# EAGLE library part MPU9255 (library HikeBuddy)
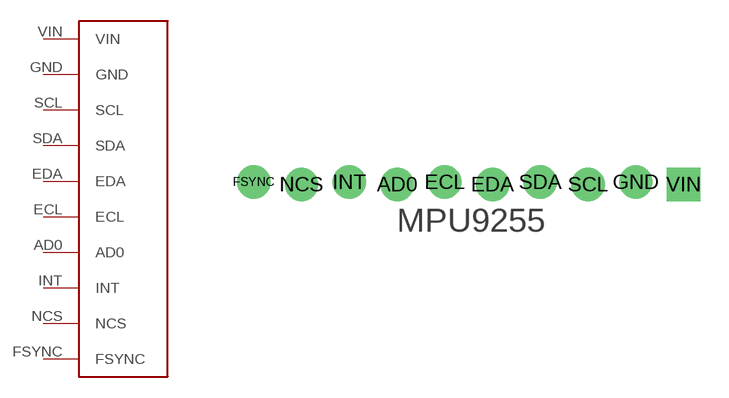
[diagram p1: symbol with the pads of MPU9255; footprint MPU9255]

Designator prefix -

## MPU9255  [MPU9255]
AD0  AD0
ECL  ECL
EDA  EDA
FSYNC  FSYNC
GND  GND
INT  INT
NCS  NCS
SCL  SCL
SDA  SDA
VIN  VIN

## Footprint MPU9255 (pad centres in mm)
drill 1 pad 1.778: AD0 -7.62,0; ECL -5.08,0.127; EDA -2.54,0; FSYNC -15.24,0.127; GND 5.08,0.127; INT -10.16,0.127; NCS -12.7,0; SCL 2.54,0; SDA 0,0.127
drill 1 pad 1.778 square: VIN 7.62,0